# EAGLE library part HA1-2540-5 (library Intersil_By_element14_Batch_1)
Operational Amplifiers
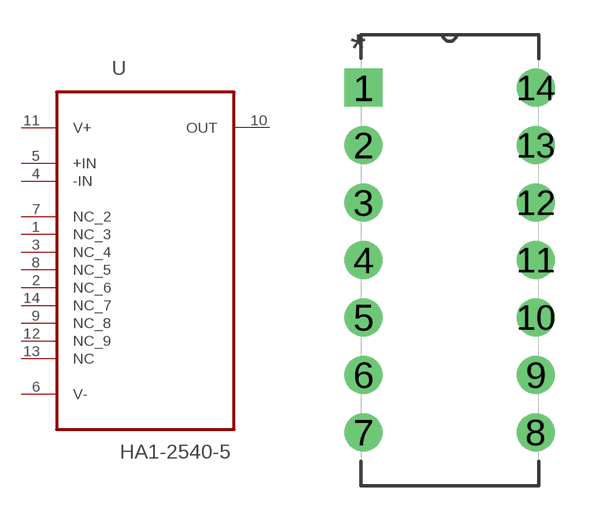
[diagram p83: symbol with the pads of DIP254P762X508-14; footprint DIP254P762X508-14]

Designator prefix U

## HA1-2540-5 (MPN: HA1-2540-5; OC_FARNELL: -; OC_NEWARK: 06F5166; PACKAGE: CDIP-14; SUPPLIER: Intersil)  [DIP254P762X508-14]
1  NC_3  nc
2  NC_6  nc
3  NC_4  nc
4  -IN  in
5  +IN  in
6  V-  pwr
7  NC_2  nc
8  NC_5  nc
9  NC_8  nc
10  OUT  out
11  V+  pwr
12  NC_9  nc
13  NC  nc
14  NC_7  nc

## Footprint DIP254P762X508-14 (pad centres in mm)
drill 1.118 square: 1 -7.62,15.24
drill 1.118: 2 -7.62,12.7; 3 -7.62,10.16; 4 -7.62,7.62; 5 -7.62,5.08; 6 -7.62,2.54; 7 -7.62,0; 8 0,0; 9 0,2.54; 10 0,5.08; 11 0,7.62; 12 0,10.16; 13 0,12.7; 14 0,15.24